# Altium schematic symbol library AGC0603X7R250-105KXP.SchLib: 1 symbol
Pins are listed as number, name and electrical type; pins without a type are passive.

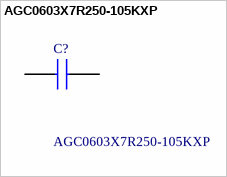
[diagram p0: symbol AGC0603X7R250-105KXP]

## AGC0603X7R250-105KXP
designator C?
1 F +/-10% 25V Ceramic Capacitor X7R 0603 (1608 Metric); Manufacturer_Name: Venkel; Geometry.Height: 0.95mm; Manufacturer_Part_Number: AGC0603X7R250-105KXP; Mouser Part Number: *; Mouser Price/Stock: *; Arrow Part Number: *; Arrow Price/Stock: *; Datasheet Link: https://g.componentsearchengine.com/Datasheets/0/20899965.pdf
footprint CAPC1608X95N
pins: 1, 2